# Altium schematic symbol library RES,2k7,1%,0.063W,0402.Schlib: 1 symbol
Pins are listed as number, name and electrical type; pins without a type are passive.

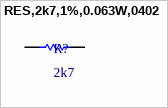
[diagram p0: symbol RES,2k7,1%,0.063W,0402]

## RES,2k7,1%,0.063W,0402
designator R?, comment 2k7
2.7 kOhms ±1% 0.063W, 1/16W Chip Resistor 0402 (1005 Metric) Automotive AEC-Q200 Thick Film
pins: 1, 2